# Altium schematic symbol library Processing.SchLib: 1 symbol
Pins are listed as number, name and electrical type; pins without a type are passive.

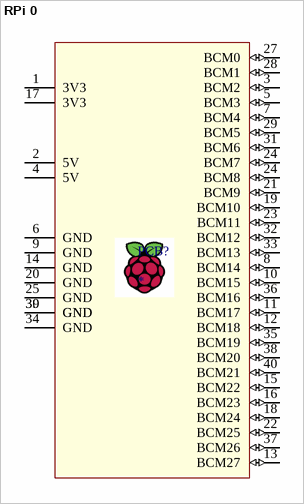
[diagram p0: symbol RPi 0]

## RPi 0
designator PCB?
Raspberry Pi 0/0 W
pins: 1 3V3 (power), 2 5V (power), 3 BCM2 (io), 4 5V (power), 5 BCM3 (io), 6 GND (power), 7 BCM4 (io), 8 BCM14 (io), 9 GND (power), 10 BCM15 (io), 11 BCM17 (io), 12 BCM18 (io), 13 BCM27 (io), 14 GND (power), 15 BCM22 (io), 16 BCM23 (io), 17 3V3 (power), 18 BCM24 (io), 19 BCM10 (io), 20 GND (power), 21 BCM9 (io), 22 BCM25 (io), 23 BCM11 (io), 24 BCM7 (io), 24 BCM8 (io), 25 GND (power), 27 BCM0 (io), 28 BCM1 (io), 29 BCM5 (io), 30 GND (power), 31 BCM6 (io), 32 BCM12 (io), 33 BCM13 (io), 34 GND (power), 35 BCM19 (io), 36 BCM16 (io), 37 BCM26 (io), 38 BCM20 (io), 39 GND (power), 40 BCM21 (io)